# EAGLE library part 24VL025T/MNY (library Memory)
IC EEPROM 2K I2C 400KHZ 8TDFN Manufacturer's datasheet <http://ww1.microchip.com/downloads/en/DeviceDoc/22130A.pdf>
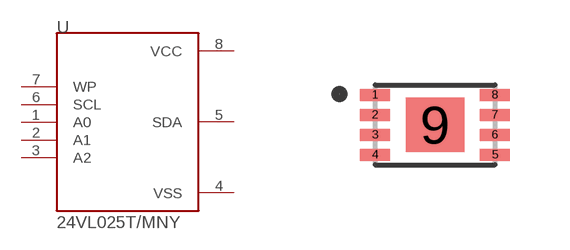
[diagram p14: symbol with the pads of TDFN8; footprint TDFN8]

Designator prefix U

## 24VL025T/MNY (CREATED_BY: PCBLayout.com; DIGIKEY_PARTNO: 24VL025T/MNYTR-ND; MANUFACTURER: Microchip Technology; MPN: 24VL025T/MNY; PACKAGE: TDFN-8)  [TDFN8]
1  A0  in
2  A1  in
3  A2  in
4  VSS  pwr
5  SDA
6  SCL  in
7  WP  in
8  VCC  pwr

## Footprint TDFN8 (pad centres in mm)
smd 0.75 x 0.3: 1 -1.5,0.75; 2 -1.5,0.25; 3 -1.5,-0.25; 4 -1.5,-0.75; 5 1.5,-0.75; 6 1.5,-0.25; 7 1.5,0.25; 8 1.5,0.75
smd 1.46 x 1.36: 9 0,0